# EAGLE library part YX5200-24SS (library mille-feuille)
MP3 Player IC - almost same as KT403A (except reset pin)
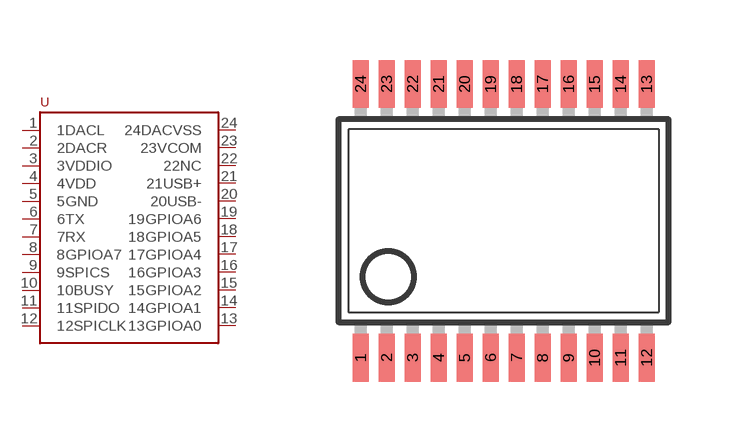
[diagram p34: symbol with the pads of SSOP24; footprint SSOP24]

Designator prefix U

## YX5200-24SS  [SSOP24]
1  1DACL
2  2DACR
3  3VDDIO
4  4VDD
5  5GND
6  6TX
7  7RX
8  8GPIOA7
9  9SPICS
10  10BUSY
11  11SPIDO
12  12SPICLK
13  13GPIOA0
14  14GPIOA1
15  15GPIOA2
16  16GPIOA3
17  17GPIOA4
18  18GPIOA5
19  19GPIOA6
20  20USB-
21  21USB+
22  22NC
23  23VCOM
24  24DACVSS

## Footprint SSOP24 (pad centres in mm)
Small Shrink Outline Package SOT340-1 / JEDEC MO-150AG
smd 0.4 x 1.2: 1 -3.575,-3.42; 2 -2.925,-3.42; 3 -2.275,-3.42; 4 -1.625,-3.42; 5 -0.975,-3.42; 6 -0.325,-3.42; 7 0.325,-3.42; 8 0.975,-3.42; 9 1.625,-3.42; 10 2.275,-3.42; 11 2.925,-3.42; 12 3.575,-3.42; 13 3.575,3.42; 14 2.925,3.42; 15 2.275,3.42; 16 1.625,3.42; 17 0.975,3.42; 18 0.325,3.42; 19 -0.325,3.42; 20 -0.975,3.42; 21 -1.625,3.42; 22 -2.275,3.42; 23 -2.925,3.42; 24 -3.575,3.42